# EAGLE library part MMDT3904 (library mmoretti)
Dual NPN transistor
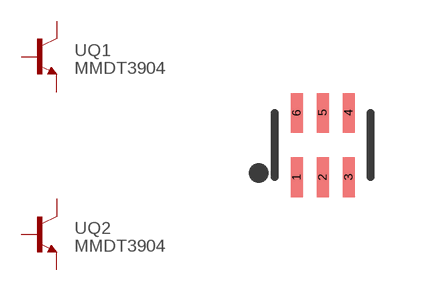
[diagram p17: symbol with the pads of SOT363; footprint SOT363]

Designator prefix -; gates Q1=NPN Q2=NPN

## MMDT3904  [SOT363]
1  Q2:E  pas
2  Q2:B  pas
3  Q1:C  pas
4  Q1:E  pas
5  Q1:B  pas
6  Q2:C  pas

## Footprint SOT363 (pad centres in mm)
smd 0.3 x 0.99: 1 -0.65,-0.8; 2 0,-0.8; 3 0.65,-0.8; 4 0.65,0.81; 5 0,0.81; 6 -0.65,0.81